# EAGLE library part V__VFD_FIP5AM9A (library ++Bedrahtet)
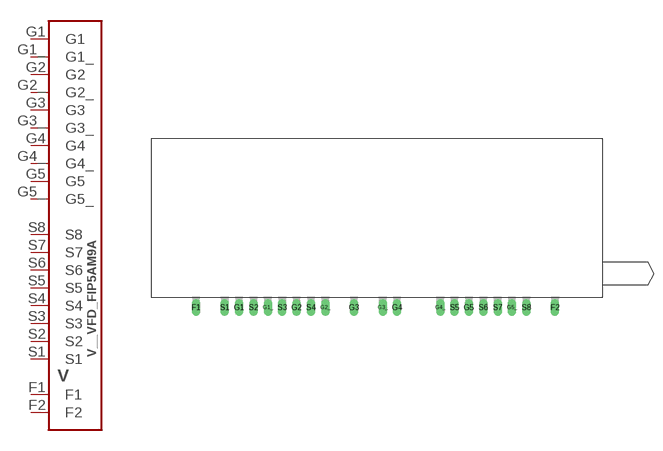
[diagram p53: symbol with the pads of VFD_FIP5AM9A; footprint VFD_FIP5AM9A]

Designator prefix V

## V__VFD_FIP5AM9A  [VFD_FIP5AM9A]
F1  F1
F2  F2
G1  G1
G1_  G1_
G2  G2
G2_  G2_
G3  G3
G3_  G3_
G4  G4
G4_  G4_
G5  G5
G5_  G5_
S1  S1
S2  S2
S3  S3
S4  S4
S5  S5
S6  S6
S7  S7
S8  S8

## Footprint VFD_FIP5AM9A (pad centres in mm)
drill 1 long: F1 0,0; F2 63.5,0; G1 7.62,0; G1_ 12.7,0; G2 17.78,0; G2_ 22.86,0; G3 27.94,0; G3_ 33.02,0; G4 35.56,0; G4_ 43.18,0; G5 48.26,0; G5_ 55.88,0; S1 5.08,0; S2 10.16,0; S3 15.24,0; S4 20.32,0; S5 45.72,0; S6 50.8,0; S7 53.34,0; S8 58.42,0